# Altium integrated library NSC LDO.IntLib: 1202 symbols (part 2 of 27)
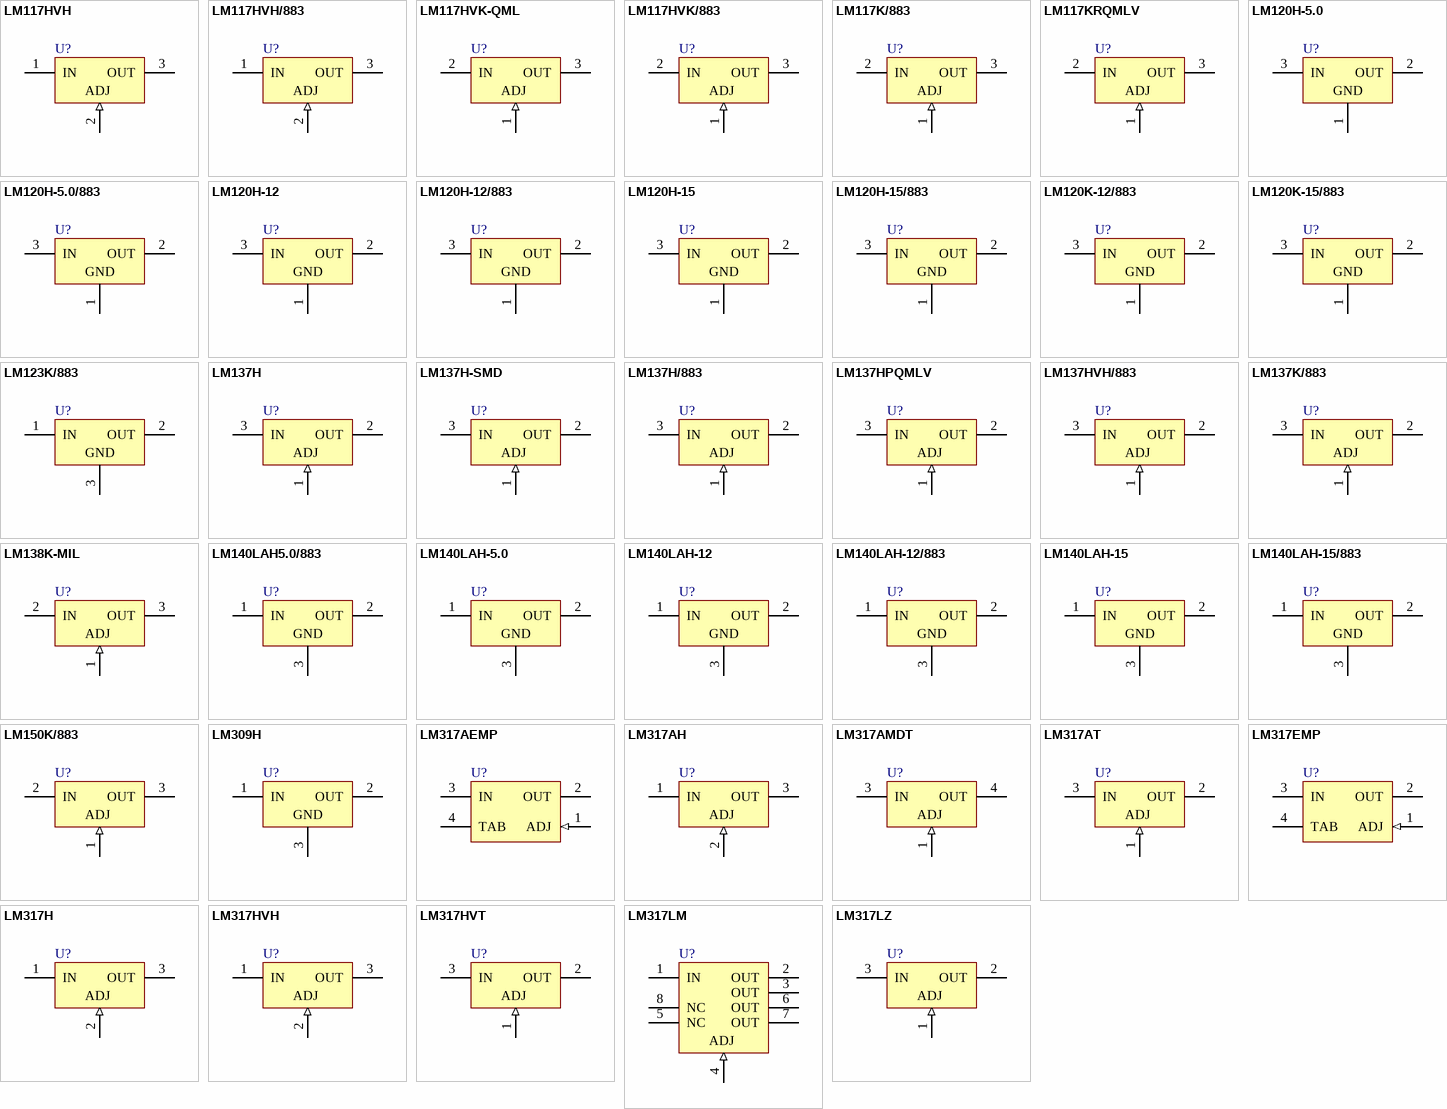
[diagram p31: symbols LM117HVH to LM317LZ]

## LM120K-15/883
designator U?
Series 3-Terminal Negative Regulators; PartNumber: LM120K-15/883; Manufacturer: National Semiconductor; CompType: LDO IC; PackageTopMarking: NS ZSSXXYYA*LM120K-15*/883 Q; Published: 4-Dec-2008; DatasheetVersion: Nov-2007; PackageVersion: revE, Sep-1995; PackageReference: K02C; Publisher: Altium Limited; PackageDescription: Metal Can TO-3, 2 Lead, Low Profile; RoHS: N; PinCount: 2; ComponentLink1Description: LM120 Datasheet; ComponentLink1URL: http://www.national.com/ds/LM/LM120.pdf; ComponentLink2Description: LM120 Web Page; ComponentLink2URL: http://www.national.com/pf/LM/LM120.html; ComponentLink3Description: K02C Package Page; ComponentLink3URL: http://www.national.com/packaging/folders/k02c.html
footprint K02C (Oval Flange Mount with (2) Offset Leads; Pin Spacing 10.92 mm; Lead Dia. 1.09 mm (max))
pins: 1 GND (power), 2 OUT (power), 3 IN (power)

## LM123K/883
designator U?
3-Amp, 5-Volt Positive Regulator; PartNumber: LM123K/883; Manufacturer: National Semiconductor; CompType: LDO IC; PackageTopMarking: NSZSSXXYYA*LM123K/883*Q; Published: 4-Dec-2008; DatasheetVersion: Apr-1998; PackageVersion: revE, Sep-1995; PackageReference: K02C; Publisher: Altium Limited; PackageDescription: Metal Can TO-3, 2 Lead, Low Profile; RoHS: N; PinCount: 2; ComponentLink1Description: LM123 Datasheet; ComponentLink1URL: http://www.national.com/ds/LM/LM123.pdf; ComponentLink2Description: LM123 Web Page; ComponentLink2URL: http://www.national.com/pf/LM/LM123.html; ComponentLink3Description: K02C Package Page; ComponentLink3URL: http://www.national.com/packaging/folders/k02c.html
footprint K02C (Oval Flange Mount with (2) Offset Leads; Pin Spacing 10.92 mm; Lead Dia. 1.09 mm (max))
pins: 1 IN (power), 2 OUT (power), 3 GND (power)

## LM137H
designator U?
3-Terminal Adjustable Negative Regulator; PartNumber: LM137H; Manufacturer: National Semiconductor; CompType: LDO IC; PackageTopMarking: NSZXYTTE# LM137HP+; Published: 4-Dec-2008; DatasheetVersion: Nov-2004; PackageVersion: revD, Feb-1995; PackageReference: H03A; Publisher: Altium Limited; PackageDescription: Metal Can, TO-39, 3 Lead, .200in Dia, P.C.; RoHS: O; PinCount: 3; DigiKeyPartNumber: LM137H-ND; Code_JEDEC: TO-39; ComponentLink1Description: LM137 Datasheet; ComponentLink1URL: http://www.national.com/ds/LM/LM137.pdf; ComponentLink2Description: LM137 Web Page; ComponentLink2URL: http://www.national.com/pf/LM/LM137.html; ComponentLink3Description: H03A Package Page; ComponentLink3URL: http://www.national.com/packaging/folders/h03a.html
footprint H03A (Can; 3 Leads; Pin Circle Dia. 5.08 mm; Lead Dia. 0.48 mm (max))
pins: 1 ADJ (in), 2 OUT (power), 3 IN (power)

## LM137H-SMD
designator U?
3-Terminal Adjustable Negative Regulator; PartNumber: LM137H-SMD; Manufacturer: National Semiconductor; CompType: LDO IC; PackageTopMarking: NS ZSSXXYYA Q*27014 7703403XA; Published: 4-Dec-2008; DatasheetVersion: Nov-2004; PackageVersion: revD, Feb-1995; PackageReference: H03A; Publisher: Altium Limited; PackageDescription: Metal Can, TO-39, 3 Lead, .200in Dia, P.C.; RoHS: N; PinCount: 3; Code_JEDEC: TO-39; ComponentLink1Description: LM137 Datasheet; ComponentLink1URL: http://www.national.com/ds/LM/LM137.pdf; ComponentLink2Description: LM137 Web Page; ComponentLink2URL: http://www.national.com/pf/LM/LM137.html; ComponentLink3Description: H03A Package Page; ComponentLink3URL: http://www.national.com/packaging/folders/h03a.html
footprint H03A (Can; 3 Leads; Pin Circle Dia. 5.08 mm; Lead Dia. 0.48 mm (max))
pins: 1 ADJ (in), 2 OUT (power), 3 IN (power)

## LM137H/883
designator U?
3-Terminal Adjustable Negative Regulator; PartNumber: LM137H/883; Manufacturer: National Semiconductor; CompType: LDO IC; PackageTopMarking: NS ZSSXXYYA*LM137H/883 Q; Published: 4-Dec-2008; DatasheetVersion: Nov-2004; PackageVersion: revD, Feb-1995; PackageReference: H03A; Publisher: Altium Limited; PackageDescription: Metal Can, TO-39, 3 Lead, .200in Dia, P.C.; RoHS: N; PinCount: 3; Code_JEDEC: TO-39; ComponentLink1Description: LM137 Datasheet; ComponentLink1URL: http://www.national.com/ds/LM/LM137.pdf; ComponentLink2Description: LM137 Web Page; ComponentLink2URL: http://www.national.com/pf/LM/LM137.html; ComponentLink3Description: H03A Package Page; ComponentLink3URL: http://www.national.com/packaging/folders/h03a.html
footprint H03A (Can; 3 Leads; Pin Circle Dia. 5.08 mm; Lead Dia. 0.48 mm (max))
pins: 1 ADJ (in), 2 OUT (power), 3 IN (power)

## LM137HPQMLV
designator U?
3-Terminal Adjustable Negative Regulator; PartNumber: LM137HPQMLV; Manufacturer: National Semiconductor; CompType: LDO IC; PackageTopMarking: NSZSSXXYYA*9951701VXA LM137HPQV Q; Published: 4-Dec-2008; DatasheetVersion: Nov-2004; PackageVersion: revD, Feb-1995; PackageReference: H03A; Publisher: Altium Limited; PackageDescription: Metal Can, TO-39, 3 Lead, .200in Dia, P.C.; RoHS: N; PinCount: 3; Code_JEDEC: TO-39; ComponentLink1Description: LM137 Datasheet; ComponentLink1URL: http://www.national.com/ds/LM/LM137.pdf; ComponentLink2Description: LM137 Web Page; ComponentLink2URL: http://www.national.com/pf/LM/LM137.html; ComponentLink3Description: H03A Package Page; ComponentLink3URL: http://www.national.com/packaging/folders/h03a.html
footprint H03A (Can; 3 Leads; Pin Circle Dia. 5.08 mm; Lead Dia. 0.48 mm (max))
pins: 1 ADJ (in), 2 OUT (power), 3 IN (power)

## LM137HVH/883
designator U?
3-Terminal Adjustable Negative Regulator (High Voltage); PartNumber: LM137HVH/883; Manufacturer: National Semiconductor; CompType: LDO IC; PackageTopMarking: NS ZSSXXYYA*LM137HVH/883 Q; Published: 4-Dec-2008; DatasheetVersion: May-1999; PackageVersion: revD, Feb-1995; PackageReference: H03A; Publisher: Altium Limited; PackageDescription: Metal Can, TO-39, 3 Lead, .200in Dia, P.C.; RoHS: N; PinCount: 3; Code_JEDEC: TO-39; ComponentLink1Description: LM137HV Datasheet; ComponentLink1URL: http://www.national.com/ds/LM/LM137HV.pdf; ComponentLink2Description: LM137HV Web Page; ComponentLink2URL: http://www.national.com/pf/LM/LM137HV.html; ComponentLink3Description: H03A Package Page; ComponentLink3URL: http://www.national.com/packaging/folders/h03a.html
footprint H03A (Can; 3 Leads; Pin Circle Dia. 5.08 mm; Lead Dia. 0.48 mm (max))
pins: 1 ADJ (in), 2 OUT (power), 3 IN (power)

## LM137K/883
designator U?
3-Terminal Adjustable Negative Regulator; PartNumber: LM137K/883; Manufacturer: National Semiconductor; CompType: LDO IC; PackageTopMarking: NSZSSXXYYA*LM137K/883*Q; Published: 4-Dec-2008; DatasheetVersion: Nov-2004; PackageVersion: revE, Sep-1995; PackageReference: K02C; Publisher: Altium Limited; PackageDescription: Metal Can TO-3, 2 Lead, Low Profile; RoHS: N; PinCount: 2; ComponentLink1Description: LM137 Datasheet; ComponentLink1URL: http://www.national.com/ds/LM/LM137.pdf; ComponentLink2Description: LM137 Web Page; ComponentLink2URL: http://www.national.com/pf/LM/LM137.html; ComponentLink3Description: K02C Package Page; ComponentLink3URL: http://www.national.com/packaging/folders/k02c.html
footprint K02C (Oval Flange Mount with (2) Offset Leads; Pin Spacing 10.92 mm; Lead Dia. 1.09 mm (max))
pins: 1 ADJ (in), 2 OUT (power), 3 IN (power)

## LM138K-MIL
designator U?
5 Amp Adjustable Regulator; PartNumber: LM138K-MIL; Manufacturer: National Semiconductor; CompType: LDO IC; Published: 4-Dec-2008; DatasheetVersion: May-1998; PackageVersion: revE, Sep-1995; PackageReference: K02C; Publisher: Altium Limited; PackageDescription: Metal Can TO-3, 2 Lead, Low Profile; RoHS: N; PinCount: 2; ComponentLink1Description: LM138 Datasheet; ComponentLink1URL: http://www.national.com/ds/LM/LM138.pdf; ComponentLink2Description: LM138 Web Page; ComponentLink2URL: http://www.national.com/pf/LM/LM138.html; ComponentLink3Description: K02C Package Page; ComponentLink3URL: http://www.national.com/packaging/folders/k02c.html
footprint K02C (Oval Flange Mount with (2) Offset Leads; Pin Spacing 10.92 mm; Lead Dia. 1.09 mm (max))
pins: 1 ADJ (in), 2 IN (power), 3 OUT (power)

## LM140LAH5.0/883
designator U?
Series 3-Terminal Positive Regulators; PartNumber: LM140LAH5.0/883; Manufacturer: National Semiconductor; CompType: LDO IC; PackageTopMarking: NS ZSSXXYYA*LM140LAH5.0/883 Q; Published: 4-Dec-2008; DatasheetVersion: Jul-2005; PackageVersion: revD, Feb-1995; PackageReference: H03A; Publisher: Altium Limited; PackageDescription: Metal Can, TO-39, 3 Lead, .200in Dia, P.C.; RoHS: N; PinCount: 3; Code_JEDEC: TO-39; ComponentLink1Description: LM140L Datasheet; ComponentLink1URL: http://www.national.com/ds/LM/LM140L.pdf; ComponentLink2Description: LM140L Web Page; ComponentLink2URL: http://www.national.com/pf/LM/LM140L.html; ComponentLink3Description: H03A Package Page; ComponentLink3URL: http://www.national.com/packaging/folders/h03a.html
footprint H03A (Can; 3 Leads; Pin Circle Dia. 5.08 mm; Lead Dia. 0.48 mm (max))
pins: 1 IN (power), 2 OUT (power), 3 GND (power)

## LM140LAH-5.0
designator U?
Series 3-Terminal Positive Regulators; PartNumber: LM140LAH-5.0; Manufacturer: National Semiconductor; CompType: LDO IC; PackageTopMarking: NSZXYTTE# LM140LAH-5.0; Published: 4-Dec-2008; DatasheetVersion: Jul-2005; PackageVersion: revD, Feb-1995; PackageReference: H03A; Publisher: Altium Limited; PackageDescription: Metal Can, TO-39, 3 Lead, .200in Dia, P.C.; RoHS: O; PinCount: 3; DigiKeyPartNumber: LM140LAH-5.0-ND; Code_JEDEC: TO-39; ComponentLink1Description: LM140L Datasheet; ComponentLink1URL: http://www.national.com/ds/LM/LM140L.pdf; ComponentLink2Description: LM140L Web Page; ComponentLink2URL: http://www.national.com/pf/LM/LM140L.html; ComponentLink3Description: H03A Package Page; ComponentLink3URL: http://www.national.com/packaging/folders/h03a.html
footprint H03A (Can; 3 Leads; Pin Circle Dia. 5.08 mm; Lead Dia. 0.48 mm (max))
pins: 1 IN (power), 2 OUT (power), 3 GND (power)

## LM140LAH-12
designator U?
Series 3-Terminal Positive Regulators; PartNumber: LM140LAH-12; Manufacturer: National Semiconductor; CompType: LDO IC; PackageTopMarking: NSZXYTTE# LM140LAH-12; Published: 4-Dec-2008; DatasheetVersion: Jul-2005; PackageVersion: revD, Feb-1995; PackageReference: H03A; Publisher: Altium Limited; PackageDescription: Metal Can, TO-39, 3 Lead, .200in Dia, P.C.; RoHS: O; PinCount: 3; DigiKeyPartNumber: LM140LAH-12-ND; Code_JEDEC: TO-39; ComponentLink1Description: LM140L Datasheet; ComponentLink1URL: http://www.national.com/ds/LM/LM140L.pdf; ComponentLink2Description: LM140L Web Page; ComponentLink2URL: http://www.national.com/pf/LM/LM140L.html; ComponentLink3Description: H03A Package Page; ComponentLink3URL: http://www.national.com/packaging/folders/h03a.html
footprint H03A (Can; 3 Leads; Pin Circle Dia. 5.08 mm; Lead Dia. 0.48 mm (max))
pins: 1 IN (power), 2 OUT (power), 3 GND (power)

## LM140LAH-12/883
designator U?
Series 3-Terminal Positive Regulators; PartNumber: LM140LAH-12/883; Manufacturer: National Semiconductor; CompType: LDO IC; PackageTopMarking: NS ZSSXXYYA*LM140LAH-12/883 Q; Published: 4-Dec-2008; DatasheetVersion: Jul-2005; PackageVersion: revD, Feb-1995; PackageReference: H03A; Publisher: Altium Limited; PackageDescription: Metal Can, TO-39, 3 Lead, .200in Dia, P.C.; RoHS: N; PinCount: 3; Code_JEDEC: TO-39; ComponentLink1Description: LM140L Datasheet; ComponentLink1URL: http://www.national.com/ds/LM/LM140L.pdf; ComponentLink2Description: LM140L Web Page; ComponentLink2URL: http://www.national.com/pf/LM/LM140L.html; ComponentLink3Description: H03A Package Page; ComponentLink3URL: http://www.national.com/packaging/folders/h03a.html
footprint H03A (Can; 3 Leads; Pin Circle Dia. 5.08 mm; Lead Dia. 0.48 mm (max))
pins: 1 IN (power), 2 OUT (power), 3 GND (power)

## LM140LAH-15
designator U?
Series 3-Terminal Positive Regulators; PartNumber: LM140LAH-15; Manufacturer: National Semiconductor; CompType: LDO IC; PackageTopMarking: NSZXYTTE# LM140LAH-15; Published: 4-Dec-2008; DatasheetVersion: Jul-2005; PackageVersion: revD, Feb-1995; PackageReference: H03A; Publisher: Altium Limited; PackageDescription: Metal Can, TO-39, 3 Lead, .200in Dia, P.C.; RoHS: O; PinCount: 3; Code_JEDEC: TO-39; ComponentLink1Description: LM140L Datasheet; ComponentLink1URL: http://www.national.com/ds/LM/LM140L.pdf; ComponentLink2Description: LM140L Web Page; ComponentLink2URL: http://www.national.com/pf/LM/LM140L.html; ComponentLink3Description: H03A Package Page; ComponentLink3URL: http://www.national.com/packaging/folders/h03a.html
footprint H03A (Can; 3 Leads; Pin Circle Dia. 5.08 mm; Lead Dia. 0.48 mm (max))
pins: 1 IN (power), 2 OUT (power), 3 GND (power)

## LM140LAH-15/883
designator U?
Series 3-Terminal Positive Regulators; PartNumber: LM140LAH-15/883; Manufacturer: National Semiconductor; CompType: LDO IC; PackageTopMarking: NS ZSSXXYYA*LM140LAH-15/883 Q; Published: 4-Dec-2008; DatasheetVersion: Jul-2005; PackageVersion: revD, Feb-1995; PackageReference: H03A; Publisher: Altium Limited; PackageDescription: Metal Can, TO-39, 3 Lead, .200in Dia, P.C.; RoHS: N; PinCount: 3; Code_JEDEC: TO-39; ComponentLink1Description: LM140L Datasheet; ComponentLink1URL: http://www.national.com/ds/LM/LM140L.pdf; ComponentLink2Description: LM140L Web Page; ComponentLink2URL: http://www.national.com/pf/LM/LM140L.html; ComponentLink3Description: H03A Package Page; ComponentLink3URL: http://www.national.com/packaging/folders/h03a.html
footprint H03A (Can; 3 Leads; Pin Circle Dia. 5.08 mm; Lead Dia. 0.48 mm (max))
pins: 1 IN (power), 2 OUT (power), 3 GND (power)

## LM150K/883
designator U?
3-Amp Adjustable Regulator; PartNumber: LM150K/883; Manufacturer: National Semiconductor; CompType: LDO IC; PackageTopMarking: NS ZSSXXYYA*LM150K/883*Q 5962-*8767501XA; Published: 4-Dec-2008; DatasheetVersion: May-1998; PackageVersion: revE, Sep-1995; PackageReference: K02C; Publisher: Altium Limited; PackageDescription: Metal Can TO-3, 2 Lead, Low Profile; RoHS: N; PinCount: 2; ComponentLink1Description: LM150 Datasheet; ComponentLink1URL: http://www.national.com/ds/LM/LM150.pdf; ComponentLink2Description: LM150 Web Page; ComponentLink2URL: http://www.national.com/pf/LM/LM150.html; ComponentLink3Description: K02C Package Page; ComponentLink3URL: http://www.national.com/packaging/folders/k02c.html
footprint K02C (Oval Flange Mount with (2) Offset Leads; Pin Spacing 10.92 mm; Lead Dia. 1.09 mm (max))
pins: 1 ADJ (in), 2 IN (power), 3 OUT (power)

## LM309H
designator U?
5-Volt Regulator; PartNumber: LM309H; Manufacturer: National Semiconductor; CompType: LDO IC; PackageTopMarking: NSZXYTTE# LM309HP+; Published: 4-Dec-2008; DatasheetVersion: Apr-1998; PackageVersion: revD, Feb-1995; PackageReference: H03A; Publisher: Altium Limited; PackageDescription: Metal Can, TO-39, 3 Lead, .200in Dia, P.C.; RoHS: O; PinCount: 3; DigiKeyPartNumber: LM309H-ND; Code_JEDEC: TO-39; ComponentLink1Description: LM309 Datasheet; ComponentLink1URL: http://www.national.com/ds/LM/LM309.pdf; ComponentLink2Description: LM309 Web Page; ComponentLink2URL: http://www.national.com/pf/LM/LM309.html; ComponentLink3Description: H03A Package Page; ComponentLink3URL: http://www.national.com/packaging/folders/h03a.html
footprint H03A (Can; 3 Leads; Pin Circle Dia. 5.08 mm; Lead Dia. 0.48 mm (max))
pins: 1 IN (power), 2 OUT (power), 3 GND (power)

## LM317AEMP
designator U?
3-Terminal Adjustable Regulator; PartNumber: LM317AEMP; Manufacturer: National Semiconductor; CompType: LDO IC; PackageTopMarking: XYTT*N07A; Published: 4-Dec-2008; DatasheetVersion: Apr-2007; PackageVersion: revB, Apr-2003; PackageReference: MP04A; Publisher: Altium Limited; PackageDescription: Molded SOT-223, 6.50 x 3.56 x 1.6mm Body, 4 Lead, 2.3mm Pitch; RoHS: O; PinCount: 4; DigiKeyPartNumber: LM317AEMPCT-ND; Code_JEDEC: TO-261-AA; Code_IPC: SOT223-4; ComponentLink1Description: LM317 Datasheet; ComponentLink1URL: http://www.national.com/ds/LM/LM317.pdf; ComponentLink2Description: LM317 Web Page; ComponentLink2URL: http://www.national.com/pf/LM/LM317.html; ComponentLink3Description: MP04A Package Page; ComponentLink3URL: http://www.national.com/packaging/folders/mp04a.html
footprint MP04A_N (SOT223, 4-Leads, Body 6.5x3.5mm, Pitch 2.3mm, Lead Span 7mm, IPC Medium Density)
footprint MP04A_L (SOT223, 4-Leads, Body 6.5x3.5mm, Pitch 2.3mm, Lead Span 7mm, IPC High Density)
footprint MP04A_M (SOT223, 4-Leads, Body 6.5x3.5mm, Pitch 2.3mm, Lead Span 7mm, IPC Low Density)
pins: 1 ADJ (in), 2 OUT (power), 3 IN (power), 4 TAB (power)

## LM317AH
designator U?
3-Terminal Adjustable Regulator; PartNumber: LM317AH; Manufacturer: National Semiconductor; CompType: LDO IC; PackageTopMarking: NSZXYTTE# LM317AHP+; Published: 4-Dec-2008; DatasheetVersion: Apr-2007; PackageVersion: revD, Feb-1995; PackageReference: H03A; Publisher: Altium Limited; PackageDescription: Metal Can, TO-39, 3 Lead, .200in Dia, P.C.; RoHS: O; PinCount: 3; DigiKeyPartNumber: LM317AH-ND; Code_JEDEC: TO-39; ComponentLink1Description: LM317 Datasheet; ComponentLink1URL: http://www.national.com/ds/LM/LM317.pdf; ComponentLink2Description: LM317 Web Page; ComponentLink2URL: http://www.national.com/pf/LM/LM317.html; ComponentLink3Description: H03A Package Page; ComponentLink3URL: http://www.national.com/packaging/folders/h03a.html
footprint H03A (Can; 3 Leads; Pin Circle Dia. 5.08 mm; Lead Dia. 0.48 mm (max))
pins: 1 IN (power), 2 ADJ (in), 3 OUT (power)

## LM317AMDT
designator U?
3-Terminal Adjustable Regulator; PartNumber: LM317AMDT; Manufacturer: National Semiconductor; CompType: LDO IC; PackageTopMarking: NSUZXYTT*LM317*AMDT; Published: 4-Dec-2008; DatasheetVersion: Apr-2007; PackageVersion: revC, Apr-2003; PackageReference: TD03B; Publisher: Altium Limited; PackageDescription: TO252, Molded, Jedec, 6.8 x 6.10 x 2.30mm Body, 3 Lead, 2.28mm Pitch, Surface Mount; RoHS: O; PinCount: 3; DigiKeyPartNumber: LM317AMDT-ND; Code_JEDEC: TO-252-AA; ComponentLink1Description: LM317 Datasheet; ComponentLink1URL: http://www.national.com/ds/LM/LM317.pdf; ComponentLink2Description: LM317 Web Page; ComponentLink2URL: http://www.national.com/pf/LM/LM317.html; ComponentLink3Description: TD03B Package Page; ComponentLink3URL: http://www.national.com/packaging/folders/td03b.html
footprint TD03B_N (D-PAK, 4-Leads, Body 6.1x6.6mm, Pitch 2.29mm, Lead Span 9.7mm, IPC Medium Density)
footprint TD03B_L (D-PAK, 4-Leads, Body 6.1x6.6mm, Pitch 2.29mm, Lead Span 9.7mm, IPC High Density)
footprint TD03B_M (D-PAK, 4-Leads, Body 6.1x6.6mm, Pitch 2.29mm, Lead Span 9.7mm, IPC Low Density)
pins: 1 ADJ (in), 3 IN (power), 4 OUT (power)

## LM317AT
designator U?
3-Terminal Adjustable Regulator; PartNumber: LM317AT; Manufacturer: National Semiconductor; CompType: LDO IC; PackageTopMarking: NSUZXYTTE#*LM317AT P+; Published: 4-Dec-2008; DatasheetVersion: Apr-2007; PackageVersion: revL, Jan-1992; PackageReference: T03B; Publisher: Altium Limited; PackageDescription: TO-220, Molded, 3 Lead, Straight; RoHS: O; PinCount: 3; DigiKeyPartNumber: LM317AT-ND; ComponentLink1Description: LM317 Datasheet; ComponentLink1URL: http://www.national.com/ds/LM/LM317.pdf; ComponentLink2Description: LM317 Web Page; ComponentLink2URL: http://www.national.com/pf/LM/LM317.html; ComponentLink3Description: T03B Package Page; ComponentLink3URL: http://www.national.com/packaging/folders/t03b.html
footprint T03B (TO, Thru-Hole, Vertical, Heatsink Mounted; 3 In-Line Leads; Pitch 2.54 mm)
pins: 1 ADJ (in), 2 OUT (power), 3 IN (power)

## LM317EMP
designator U?
3-Terminal Adjustable Regulator; PartNumber: LM317EMP; Manufacturer: National Semiconductor; CompType: LDO IC; PackageTopMarking: XYTT*N01A; Published: 4-Dec-2008; DatasheetVersion: Apr-2007; PackageVersion: revB, Apr-2003; PackageReference: MP04A; Publisher: Altium Limited; PackageDescription: Molded SOT-223, 6.50 x 3.56 x 1.6mm Body, 4 Lead, 2.3mm Pitch; RoHS: O; PinCount: 4; DigiKeyPartNumber: LM317EMPCT-ND; Code_JEDEC: TO-261-AA; Code_IPC: SOT223-4; ComponentLink1Description: LM317 Datasheet; ComponentLink1URL: http://www.national.com/ds/LM/LM317.pdf; ComponentLink2Description: LM317 Web Page; ComponentLink2URL: http://www.national.com/pf/LM/LM317.html; ComponentLink3Description: MP04A Package Page; ComponentLink3URL: http://www.national.com/packaging/folders/mp04a.html
footprint MP04A_N (SOT223, 4-Leads, Body 6.5x3.5mm, Pitch 2.3mm, Lead Span 7mm, IPC Medium Density)
footprint MP04A_L (SOT223, 4-Leads, Body 6.5x3.5mm, Pitch 2.3mm, Lead Span 7mm, IPC High Density)
footprint MP04A_M (SOT223, 4-Leads, Body 6.5x3.5mm, Pitch 2.3mm, Lead Span 7mm, IPC Low Density)
pins: 1 ADJ (in), 2 OUT (power), 3 IN (power), 4 TAB (power)

## LM317H
designator U?
3-Terminal Adjustable Regulator; PartNumber: LM317H; Manufacturer: National Semiconductor; CompType: LDO IC; PackageTopMarking: NSZXYTTE# LM317HP+; Published: 4-Dec-2008; DatasheetVersion: Apr-2007; PackageVersion: revD, Feb-1995; PackageReference: H03A; Publisher: Altium Limited; PackageDescription: Metal Can, TO-39, 3 Lead, .200in Dia, P.C.; RoHS: O; PinCount: 3; DigiKeyPartNumber: LM317HVH-ND; Code_JEDEC: TO-39; ComponentLink1Description: LM317 Datasheet; ComponentLink1URL: http://www.national.com/ds/LM/LM317.pdf; ComponentLink2Description: LM317 Web Page; ComponentLink2URL: http://www.national.com/pf/LM/LM317.html; ComponentLink3Description: H03A Package Page; ComponentLink3URL: http://www.national.com/packaging/folders/h03a.html
footprint H03A (Can; 3 Leads; Pin Circle Dia. 5.08 mm; Lead Dia. 0.48 mm (max))
pins: 1 IN (power), 2 ADJ (in), 3 OUT (power)

## LM317HVH
designator U?
3-Terminal Adjustable Regulator; PartNumber: LM317HVH; Manufacturer: National Semiconductor; CompType: LDO IC; PackageTopMarking: NSZXYTTE# LM317HVHP+; Published: 4-Dec-2008; DatasheetVersion: Apr-2000; PackageVersion: revD, Feb-1995; PackageReference: H03A; Publisher: Altium Limited; PackageDescription: Metal Can, TO-39, 3 Lead, .200in Dia, P.C.; RoHS: O; PinCount: 3; DigiKeyPartNumber: LM317HVH-ND; Code_JEDEC: TO-39; ComponentLink1Description: LM317HV Datasheet; ComponentLink1URL: http://www.national.com/ds/LM/LM317HV.pdf; ComponentLink2Description: LM317HV Web Page; ComponentLink2URL: http://www.national.com/pf/LM/LM317HV.html; ComponentLink3Description: H03A Package Page; ComponentLink3URL: http://www.national.com/packaging/folders/h03a.html
footprint H03A (Can; 3 Leads; Pin Circle Dia. 5.08 mm; Lead Dia. 0.48 mm (max))
pins: 1 IN (power), 2 ADJ (in), 3 OUT (power)

## LM317HVT
designator U?
3-Terminal Adjustable Regulator; PartNumber: LM317HVT; Manufacturer: National Semiconductor; CompType: LDO IC; PackageTopMarking: NSUZXYTTE#*LM317*HVT P+; Published: 4-Dec-2008; DatasheetVersion: Apr-2000; PackageVersion: revL, Jan-1992; PackageReference: T03B; Publisher: Altium Limited; PackageDescription: TO-220, Molded, 3 Lead, Straight; RoHS: O; PinCount: 3; DigiKeyPartNumber: LM317HVT-ND; ComponentLink1Description: LM317HV Datasheet; ComponentLink1URL: http://www.national.com/ds/LM/LM317HV.pdf; ComponentLink2Description: LM317HV Web Page; ComponentLink2URL: http://www.national.com/pf/LM/LM317HV.html; ComponentLink3Description: T03B Package Page; ComponentLink3URL: http://www.national.com/packaging/folders/t03b.html
footprint T03B (TO, Thru-Hole, Vertical, Heatsink Mounted; 3 In-Line Leads; Pitch 2.54 mm)
pins: 1 ADJ (in), 2 OUT (power), 3 IN (power)

## LM317LM
designator U?
3-Terminal Adjustable Regulator; PartNumber: LM317LM; Manufacturer: National Semiconductor; CompType: LDO IC; PackageTopMarking: NSZXTT*LM317*LM; Published: 4-Dec-2008; DatasheetVersion: Apr-2008; PackageVersion: revL, Sep-2006; PackageReference: M08A; Publisher: Altium Limited; PackageDescription: SOIC Narrow, 4.9 x 3.9 x 1.45mm, 8 Lead, 1.27mm Pitch; RoHS: O; PinCount: 8; DigiKeyPartNumber: LM317LM-ND; Code_JEDEC: MS-012-AA; Code_IPC: SOIC127P600-8; ComponentLink1Description: LM317L Datasheet; ComponentLink1URL: http://www.national.com/ds/LM/LM317L.pdf; ComponentLink2Description: LM317L Web Page; ComponentLink2URL: http://www.national.com/pf/LM/LM317L.html; ComponentLink3Description: M08A Package Page; ComponentLink3URL: http://www.national.com/packaging/folders/m08a.html
footprint M08A_N (SOIC, 8-Leads, Body 4.9x3.9mm, Pitch 1.27mm, IPC Medium Density)
footprint M08A_L (SOIC, 8-Leads, Body 4.9x3.9mm, Pitch 1.27mm, IPC High Density)
footprint M08A_M (SOIC, 8-Leads, Body 4.9x3.9mm, Pitch 1.27mm, IPC Low Density)
pins: 1 IN (power), 2 OUT (power), 3 OUT (power), 4 ADJ (in), 5 NC, 6 OUT (power), 7 OUT (power), 8 NC

## LM317LZ
designator U?
3-Terminal Adjustable Regulator; PartNumber: LM317LZ; Manufacturer: National Semiconductor; CompType: LDO IC; PackageTopMarking: NSXYTT*LM317*LZ; Published: 4-Dec-2008; DatasheetVersion: Apr-2008; PackageVersion: revG, Sep-2000; PackageReference: Z03A; Publisher: Altium Limited; PackageDescription: TO-92, Molded, 3 Lead; RoHS: O; PinCount: 3; DigiKeyPartNumber: LM317LZNS-ND; Code_JEDEC: TO-226-AA; ComponentLink1Description: LM317L Datasheet; ComponentLink1URL: http://www.national.com/ds/LM/LM317L.pdf; ComponentLink2Description: LM317L Web Page; ComponentLink2URL: http://www.national.com/pf/LM/LM317L.html; ComponentLink3Description: Z03A Package Page; ComponentLink3URL: http://www.national.com/packaging/folders/z03a.html
footprint Z03A (TO, Flat Index; 3 In-Line, Axial Leads; Body Dia. 5mm; Leads 0.55 x 0.50 mm (max))
pins: 1 ADJ (in), 2 OUT (power), 3 IN (power)

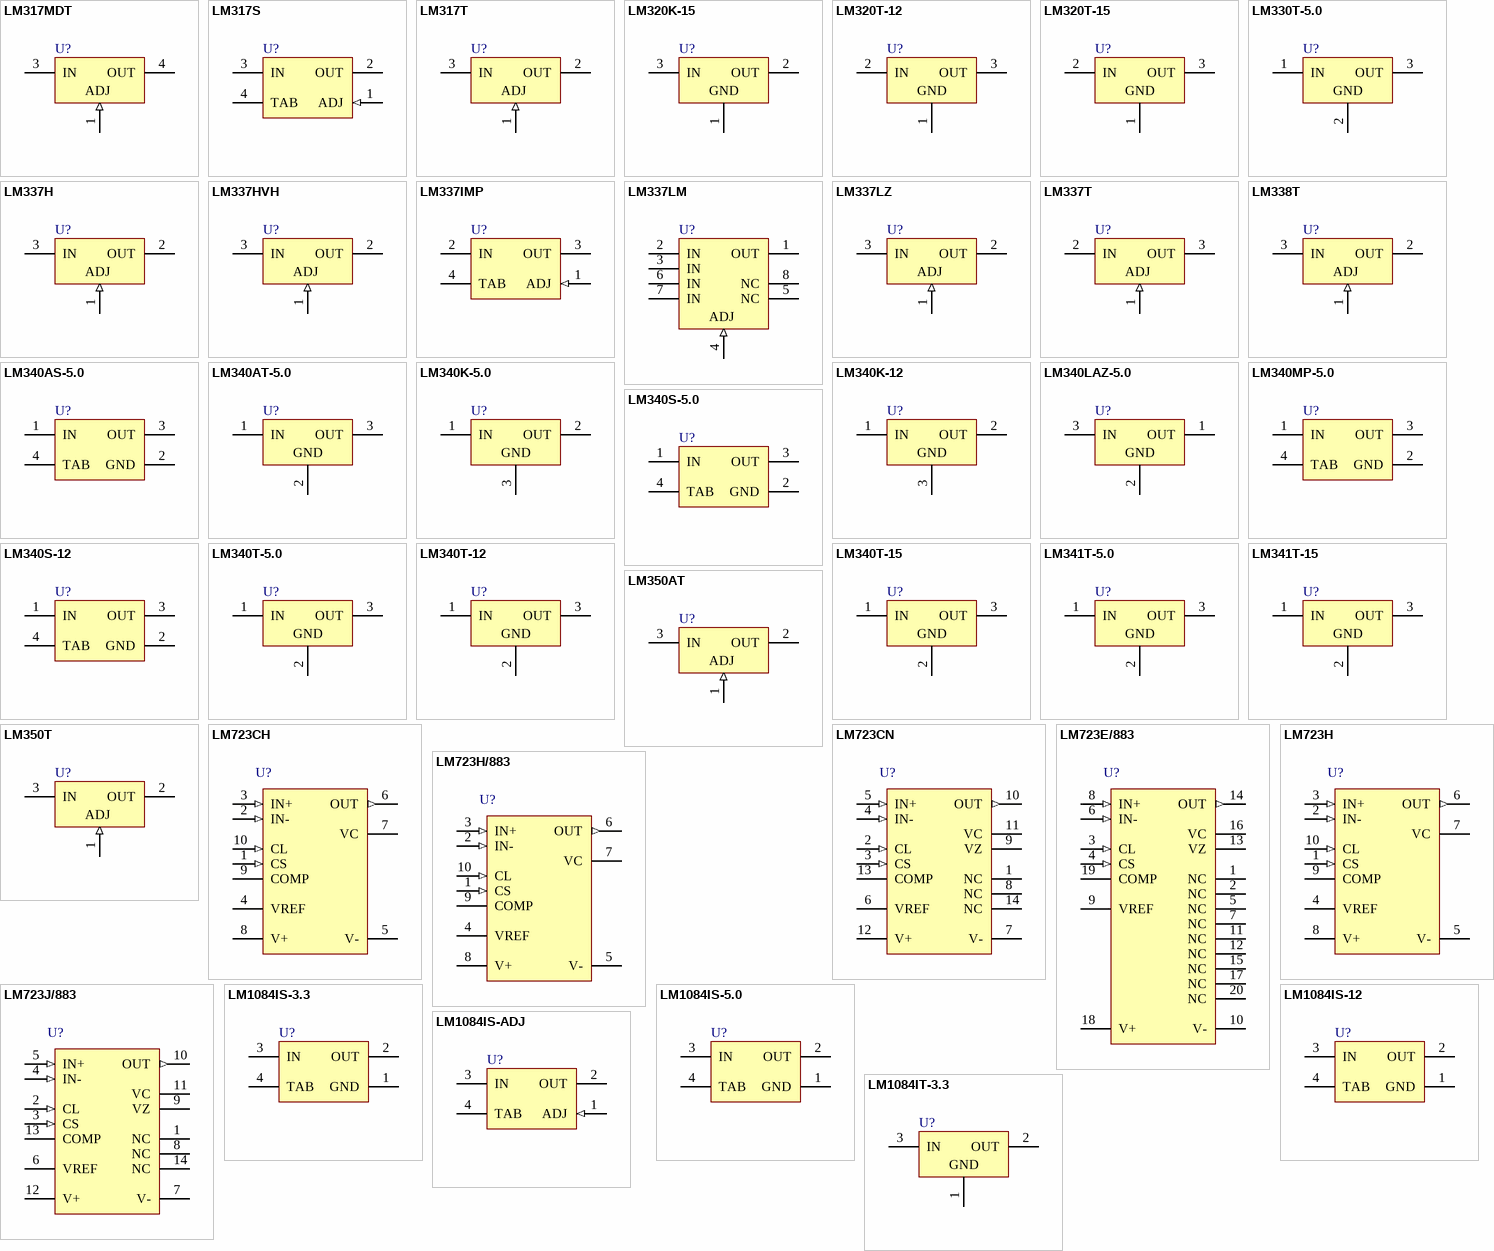
[diagram p2: symbols LM317MDT to LM1084IT-3.3]

## LM317MDT
designator U?
3-Terminal Adjustable Regulator; PartNumber: LM317MDT; Manufacturer: National Semiconductor; CompType: LDO IC; PackageTopMarking: NSUZXYTT*LM317*MDT; Published: 4-Dec-2008; DatasheetVersion: Apr-2007; PackageVersion: revC, Apr-2003; PackageReference: TD03B; Publisher: Altium Limited; PackageDescription: TO252, Molded, Jedec, 6.8 x 6.10 x 2.30mm Body, 3 Lead, 2.28mm Pitch, Surface Mount; RoHS: O; PinCount: 3; DigiKeyPartNumber: LM317MDTNS-ND; Code_JEDEC: TO-252-AA; ComponentLink1Description: LM317 Datasheet; ComponentLink1URL: http://www.national.com/ds/LM/LM317.pdf; ComponentLink2Description: LM317 Web Page; ComponentLink2URL: http://www.national.com/pf/LM/LM317.html; ComponentLink3Description: TD03B Package Page; ComponentLink3URL: http://www.national.com/packaging/folders/td03b.html
footprint TD03B_N (D-PAK, 4-Leads, Body 6.1x6.6mm, Pitch 2.29mm, Lead Span 9.7mm, IPC Medium Density)
footprint TD03B_L (D-PAK, 4-Leads, Body 6.1x6.6mm, Pitch 2.29mm, Lead Span 9.7mm, IPC High Density)
footprint TD03B_M (D-PAK, 4-Leads, Body 6.1x6.6mm, Pitch 2.29mm, Lead Span 9.7mm, IPC Low Density)
pins: 1 ADJ (in), 3 IN (power), 4 OUT (power)

## LM317S
designator U?
3-Terminal Adjustable Regulator; PartNumber: LM317S; Manufacturer: National Semiconductor; CompType: LDO IC; PackageTopMarking: NSUZXYTTE#*LM317S*P+; Published: 4-Dec-2008; DatasheetVersion: Apr-2007; PackageVersion: revF, Apr-2005; PackageReference: TS3B; Publisher: Altium Limited; PackageDescription: TO-263, Molded, .400 x .390 x .180in, 3 Lead, .1in Pitch, Surface Mount; RoHS: O; PinCount: 3; DigiKeyPartNumber: LM317S-ND; Code_JEDEC: MO-169-AA; ComponentLink1Description: LM317 Datasheet; ComponentLink1URL: http://www.national.com/ds/LM/LM317.pdf; ComponentLink2Description: LM317 Web Page; ComponentLink2URL: http://www.national.com/pf/LM/LM317.html; ComponentLink3Description: TS3B Package Page; ComponentLink3URL: http://www.national.com/packaging/folders/ts3b.html
footprint TS3B_N (D2-PAK, 4-Leads, Body 8.6x10.2mm, Pitch 2.54mm, Lead Span 14.2mm, IPC Medium Density)
footprint TS3B_L (D2-PAK, 4-Leads, Body 8.6x10.2mm, Pitch 2.54mm, Lead Span 14.2mm, IPC High Density)
footprint TS3B_M (D2-PAK, 4-Leads, Body 8.6x10.2mm, Pitch 2.54mm, Lead Span 14.2mm, IPC Low Density)
pins: 1 ADJ (in), 2 OUT (power), 3 IN (power), 4 TAB (power)

## LM317T
designator U?
3-Terminal Adjustable Regulator; PartNumber: LM317T; Manufacturer: National Semiconductor; CompType: LDO IC; PackageTopMarking: NSUZXYTTE#*LM317T P+; Published: 4-Dec-2008; DatasheetVersion: Apr-2007; PackageVersion: revL, Jan-1992; PackageReference: T03B; Publisher: Altium Limited; PackageDescription: TO-220, Molded, 3 Lead, Straight; RoHS: O; PinCount: 3; DigiKeyPartNumber: LM317TNS-ND; ComponentLink1Description: LM317 Datasheet; ComponentLink1URL: http://www.national.com/ds/LM/LM317.pdf; ComponentLink2Description: LM317 Web Page; ComponentLink2URL: http://www.national.com/pf/LM/LM317.html; ComponentLink3Description: T03B Package Page; ComponentLink3URL: http://www.national.com/packaging/folders/t03b.html
footprint T03B (TO, Thru-Hole, Vertical, Heatsink Mounted; 3 In-Line Leads; Pitch 2.54 mm)
pins: 1 ADJ (in), 2 OUT (power), 3 IN (power)

## LM320K-15
designator U?
Series 3-Terminal Negative Regulators; PartNumber: LM320K-15; Manufacturer: National Semiconductor; CompType: LDO IC; PackageTopMarking: NS*ZXYTTE#*LM320K*-15P+; Published: 4-Dec-2008; DatasheetVersion: Nov-2007; PackageVersion: revG, Oct-1991; PackageReference: K02A; Publisher: Altium Limited; PackageDescription: Metal Can (KA) TO-3, 2 Lead; RoHS: O; PinCount: 2; DigiKeyPartNumber: LM320K-15-ND; ComponentLink1Description: LM320 Datasheet; ComponentLink1URL: http://www.national.com/ds/LM/LM320.pdf; ComponentLink2Description: LM320 Web Page; ComponentLink2URL: http://www.national.com/pf/LM/LM320.html; ComponentLink3Description: K02A Package Page; ComponentLink3URL: http://www.national.com/packaging/folders/k02a.html
footprint K02A (Oval Flange Mount with (2) Offset Leads; Pin Spacing 10.93 mm; Lead Dia. 1.09 mm (max))
pins: 1 GND (power), 2 OUT (power), 3 IN (power)

## LM320T-12
designator U?
Series 3-Terminal Negative Regulators; PartNumber: LM320T-12; Manufacturer: National Semiconductor; CompType: LDO IC; PackageTopMarking: NSUZXYTTE#*LM320T*-12 P+; Published: 4-Dec-2008; DatasheetVersion: Nov-2007; PackageVersion: revL, Jan-1992; PackageReference: T03B; Publisher: Altium Limited; PackageDescription: TO-220, Molded, 3 Lead, Straight; RoHS: O; PinCount: 3; DigiKeyPartNumber: LM320T-12-ND; ComponentLink1Description: LM320 Datasheet; ComponentLink1URL: http://www.national.com/ds/LM/LM320.pdf; ComponentLink2Description: LM320 Web Page; ComponentLink2URL: http://www.national.com/pf/LM/LM320.html; ComponentLink3Description: T03B Package Page; ComponentLink3URL: http://www.national.com/packaging/folders/t03b.html
footprint T03B (TO, Thru-Hole, Vertical, Heatsink Mounted; 3 In-Line Leads; Pitch 2.54 mm)
pins: 1 GND (power), 2 IN (power), 3 OUT (power)

## LM320T-15
designator U?
Series 3-Terminal Negative Regulators; PartNumber: LM320T-15; Manufacturer: National Semiconductor; CompType: LDO IC; PackageTopMarking: NSUZXYTTE#*LM320T*-15 P+; Published: 4-Dec-2008; DatasheetVersion: Nov-2007; PackageVersion: revL, Jan-1992; PackageReference: T03B; Publisher: Altium Limited; PackageDescription: TO-220, Molded, 3 Lead, Straight; RoHS: O; PinCount: 3; DigiKeyPartNumber: LM320T-15-ND; ComponentLink1Description: LM320 Datasheet; ComponentLink1URL: http://www.national.com/ds/LM/LM320.pdf; ComponentLink2Description: LM320 Web Page; ComponentLink2URL: http://www.national.com/pf/LM/LM320.html; ComponentLink3Description: T03B Package Page; ComponentLink3URL: http://www.national.com/packaging/folders/t03b.html
footprint T03B (TO, Thru-Hole, Vertical, Heatsink Mounted; 3 In-Line Leads; Pitch 2.54 mm)
pins: 1 GND (power), 2 IN (power), 3 OUT (power)

## LM330T-5.0
designator U?
3-Terminal Positive Regulator; PartNumber: LM330T-5.0; Manufacturer: National Semiconductor; CompType: LDO IC; PackageTopMarking: NSUZXYTTE#*LM330T*-5.0; Published: 4-Dec-2008; DatasheetVersion: May-1998; PackageVersion: revL, Jan-1992; PackageReference: T03B; Publisher: Altium Limited; PackageDescription: TO-220, Molded, 3 Lead, Straight; RoHS: O; PinCount: 3; DigiKeyPartNumber: LM330T-5.0-ND; ComponentLink1Description: LM330 Datasheet; ComponentLink1URL: http://www.national.com/ds/LM/LM330.pdf; ComponentLink2Description: LM330 Web Page; ComponentLink2URL: http://www.national.com/pf/LM/LM330.html; ComponentLink3Description: T03B Package Page; ComponentLink3URL: http://www.national.com/packaging/folders/t03b.html
footprint T03B (TO, Thru-Hole, Vertical, Heatsink Mounted; 3 In-Line Leads; Pitch 2.54 mm)
pins: 1 IN (power), 2 GND (power), 3 OUT (power)

## LM337H
designator U?
3-Terminal Adjustable Negative Regulator; PartNumber: LM337H; Manufacturer: National Semiconductor; CompType: LDO IC; PackageTopMarking: NSZXYTTE# LM337H; Published: 4-Dec-2008; DatasheetVersion: Nov-2004; PackageVersion: revD, Feb-1995; PackageReference: H03A; Publisher: Altium Limited; PackageDescription: Metal Can, TO-39, 3 Lead, .200in Dia, P.C.; RoHS: O; PinCount: 3; DigiKeyPartNumber: LM337H-ND; Code_JEDEC: TO-39; ComponentLink1Description: LM337 Datasheet; ComponentLink1URL: http://www.national.com/ds/LM/LM337.pdf; ComponentLink2Description: LM337 Web Page; ComponentLink2URL: http://www.national.com/pf/LM/LM337.html; ComponentLink3Description: H03A Package Page; ComponentLink3URL: http://www.national.com/packaging/folders/h03a.html
footprint H03A (Can; 3 Leads; Pin Circle Dia. 5.08 mm; Lead Dia. 0.48 mm (max))
pins: 1 ADJ (in), 2 OUT (power), 3 IN (power)

## LM337HVH
designator U?
3-Terminal Adjustable Negative Regulator (High Voltage); PartNumber: LM337HVH; Manufacturer: National Semiconductor; CompType: LDO IC; PackageTopMarking: NSZXYTTE# LM337HVH; Published: 4-Dec-2008; DatasheetVersion: May-1999; PackageVersion: revD, Feb-1995; PackageReference: H03A; Publisher: Altium Limited; PackageDescription: Metal Can, TO-39, 3 Lead, .200in Dia, P.C.; RoHS: O; PinCount: 3; DigiKeyPartNumber: LM337HVH-ND; Code_JEDEC: TO-39; ComponentLink1Description: LM337HV Datasheet; ComponentLink1URL: http://www.national.com/ds/LM/LM337HV.pdf; ComponentLink2Description: LM337HV Web Page; ComponentLink2URL: http://www.national.com/pf/LM/LM337HV.html; ComponentLink3Description: H03A Package Page; ComponentLink3URL: http://www.national.com/packaging/folders/h03a.html
footprint H03A (Can; 3 Leads; Pin Circle Dia. 5.08 mm; Lead Dia. 0.48 mm (max))
pins: 1 ADJ (in), 2 OUT (power), 3 IN (power)

## LM337IMP
designator U?
3-Terminal Adjustable Negative Regulator; PartNumber: LM337IMP; Manufacturer: National Semiconductor; CompType: LDO IC; PackageTopMarking: XYTT*N02A; Published: 4-Dec-2008; DatasheetVersion: Nov-2004; PackageVersion: revB, Apr-2003; PackageReference: MP04A; Publisher: Altium Limited; PackageDescription: Molded SOT-223, 6.50 x 3.56 x 1.6mm Body, 4 Lead, 2.3mm Pitch; RoHS: O; PinCount: 4; DigiKeyPartNumber: LM337IMPCT-ND; Code_JEDEC: TO-261-AA; Code_IPC: SOT223-4; ComponentLink1Description: LM337 Datasheet; ComponentLink1URL: http://www.national.com/ds/LM/LM337.pdf; ComponentLink2Description: LM337 Web Page; ComponentLink2URL: http://www.national.com/pf/LM/LM337.html; ComponentLink3Description: MP04A Package Page; ComponentLink3URL: http://www.national.com/packaging/folders/mp04a.html
footprint MP04A_N (SOT223, 4-Leads, Body 6.5x3.5mm, Pitch 2.3mm, Lead Span 7mm, IPC Medium Density)
footprint MP04A_L (SOT223, 4-Leads, Body 6.5x3.5mm, Pitch 2.3mm, Lead Span 7mm, IPC High Density)
footprint MP04A_M (SOT223, 4-Leads, Body 6.5x3.5mm, Pitch 2.3mm, Lead Span 7mm, IPC Low Density)
pins: 1 ADJ (in), 2 IN (power), 3 OUT (power), 4 TAB (power)

## LM337LM
designator U?
3-Terminal Adjustable Regulator; PartNumber: LM337LM; Manufacturer: National Semiconductor; CompType: LDO IC; PackageTopMarking: NSZXTT*LM337*LM; Published: 4-Dec-2008; DatasheetVersion: Jun-2005; PackageVersion: revL, Sep-2006; PackageReference: M08A; Publisher: Altium Limited; PackageDescription: SOIC Narrow, 4.9 x 3.9 x 1.45mm, 8 Lead, 1.27mm Pitch; RoHS: O; PinCount: 8; DigiKeyPartNumber: LM337LM-ND; Code_JEDEC: MS-012-AA; Code_IPC: SOIC127P600-8; ComponentLink1Description: LM337L Datasheet; ComponentLink1URL: http://www.national.com/ds/LM/LM337L.pdf; ComponentLink2Description: LM337L Web Page; ComponentLink2URL: http://www.national.com/pf/LM/LM337L.html; ComponentLink3Description: M08A Package Page; ComponentLink3URL: http://www.national.com/packaging/folders/m08a.html
footprint M08A_N (SOIC, 8-Leads, Body 4.9x3.9mm, Pitch 1.27mm, IPC Medium Density)
footprint M08A_L (SOIC, 8-Leads, Body 4.9x3.9mm, Pitch 1.27mm, IPC High Density)
footprint M08A_M (SOIC, 8-Leads, Body 4.9x3.9mm, Pitch 1.27mm, IPC Low Density)
pins: 1 OUT (power), 2 IN (power), 3 IN (power), 4 ADJ (in), 5 NC, 6 IN (power), 7 IN (power), 8 NC

## LM337LZ
designator U?
3-Terminal Adjustable Regulator; PartNumber: LM337LZ; Manufacturer: National Semiconductor; CompType: LDO IC; PackageTopMarking: NSXYTT*LM337*LZ; Published: 4-Dec-2008; DatasheetVersion: Jun-2005; PackageVersion: revG, Sep-2000; PackageReference: Z03A; Publisher: Altium Limited; PackageDescription: TO-92, Molded, 3 Lead; RoHS: O; PinCount: 3; DigiKeyPartNumber: LM337LZ-ND; Code_JEDEC: TO-226-AA; ComponentLink1Description: LM337L Datasheet; ComponentLink1URL: http://www.national.com/ds/LM/LM337L.pdf; ComponentLink2Description: LM337L Web Page; ComponentLink2URL: http://www.national.com/pf/LM/LM337L.html; ComponentLink3Description: Z03A Package Page; ComponentLink3URL: http://www.national.com/packaging/folders/z03a.html
footprint Z03A (TO, Flat Index; 3 In-Line, Axial Leads; Body Dia. 5mm; Leads 0.55 x 0.50 mm (max))
pins: 1 ADJ (in), 2 OUT (power), 3 IN (power)

## LM337T
designator U?
3-Terminal Adjustable Negative Regulator; PartNumber: LM337T; Manufacturer: National Semiconductor; CompType: LDO IC; PackageTopMarking: NSUZXYTTE#*LM337T P+; Published: 4-Dec-2008; DatasheetVersion: Nov-2004; PackageVersion: revL, Jan-1992; PackageReference: T03B; Publisher: Altium Limited; PackageDescription: TO-220, Molded, 3 Lead, Straight; RoHS: O; PinCount: 3; DigiKeyPartNumber: LM337TNS-ND; ComponentLink1Description: LM337 Datasheet; ComponentLink1URL: http://www.national.com/ds/LM/LM337.pdf; ComponentLink2Description: LM337 Web Page; ComponentLink2URL: http://www.national.com/pf/LM/LM337.html; ComponentLink3Description: T03B Package Page; ComponentLink3URL: http://www.national.com/packaging/folders/t03b.html
footprint T03B (TO, Thru-Hole, Vertical, Heatsink Mounted; 3 In-Line Leads; Pitch 2.54 mm)
pins: 1 ADJ (in), 2 IN (power), 3 OUT (power)

## LM338T
designator U?
5 Amp Adjustable Regulator; PartNumber: LM338T; Manufacturer: National Semiconductor; CompType: LDO IC; PackageTopMarking: NSUZXYTTE#*LM338T P+; Published: 4-Dec-2008; DatasheetVersion: May-1998; PackageVersion: revL, Jan-1992; PackageReference: T03B; Publisher: Altium Limited; PackageDescription: TO-220, Molded, 3 Lead, Straight; RoHS: O; PinCount: 3; DigiKeyPartNumber: LM338T-ND; ComponentLink1Description: LM338 Datasheet; ComponentLink1URL: http://www.national.com/ds/LM/LM338.pdf; ComponentLink2Description: LM338 Web Page; ComponentLink2URL: http://www.national.com/pf/LM/LM338.html; ComponentLink3Description: T03B Package Page; ComponentLink3URL: http://www.national.com/packaging/folders/t03b.html
footprint T03B (TO, Thru-Hole, Vertical, Heatsink Mounted; 3 In-Line Leads; Pitch 2.54 mm)
pins: 1 ADJ (in), 2 OUT (power), 3 IN (power)

## LM340AS-5.0
designator U?
Series 3-Terminal Positive Regulators; PartNumber: LM340AS-5.0; Manufacturer: National Semiconductor; CompType: LDO IC; PackageTopMarking: NSUZXYTTE#*LM340AS*-5.0 P+; Published: 4-Dec-2008; DatasheetVersion: Jul-2006; PackageVersion: revF, Apr-2005; PackageReference: TS3B; Publisher: Altium Limited; PackageDescription: TO-263, Molded, .400 x .390 x .180in, 3 Lead, .1in Pitch, Surface Mount; RoHS: O; PinCount: 3; DigiKeyPartNumber: LM340AS-5.0-ND; Code_JEDEC: MO-169-AA; ComponentLink1Description: LM340 Datasheet; ComponentLink1URL: http://www.national.com/ds/LM/LM340.pdf; ComponentLink2Description: LM340 Web Page; ComponentLink2URL: http://www.national.com/pf/LM/LM340.html; ComponentLink3Description: TS3B Package Page; ComponentLink3URL: http://www.national.com/packaging/folders/ts3b.html
footprint TS3B_N (D2-PAK, 4-Leads, Body 8.6x10.2mm, Pitch 2.54mm, Lead Span 14.2mm, IPC Medium Density)
footprint TS3B_L (D2-PAK, 4-Leads, Body 8.6x10.2mm, Pitch 2.54mm, Lead Span 14.2mm, IPC High Density)
footprint TS3B_M (D2-PAK, 4-Leads, Body 8.6x10.2mm, Pitch 2.54mm, Lead Span 14.2mm, IPC Low Density)
pins: 1 IN (power), 2 GND (power), 3 OUT (power), 4 TAB (power)

## LM340AT-5.0
designator U?
Series 3-Terminal Positive Regulators; PartNumber: LM340AT-5.0; Manufacturer: National Semiconductor; CompType: LDO IC; PackageTopMarking: NSUZXYTTE#*LM340AT*5.0 P+; Published: 4-Dec-2008; DatasheetVersion: Jul-2006; PackageVersion: revL, Jan-1992; PackageReference: T03B; Publisher: Altium Limited; PackageDescription: TO-220, Molded, 3 Lead, Straight; RoHS: O; PinCount: 3; DigiKeyPartNumber: LM340AT-5.0-ND; ComponentLink1Description: LM340 Datasheet; ComponentLink1URL: http://www.national.com/ds/LM/LM340.pdf; ComponentLink2Description: LM340 Web Page; ComponentLink2URL: http://www.national.com/pf/LM/LM340.html; ComponentLink3Description: T03B Package Page; ComponentLink3URL: http://www.national.com/packaging/folders/t03b.html
footprint T03B (TO, Thru-Hole, Vertical, Heatsink Mounted; 3 In-Line Leads; Pitch 2.54 mm)
pins: 1 IN (power), 2 GND (power), 3 OUT (power)

## LM340K-5.0
designator U?
Series 3-Terminal Positive Regulators; PartNumber: LM340K-5.0; Manufacturer: National Semiconductor; CompType: LDO IC; PackageTopMarking: NS*ZXYTTE#*LM340K*-5.0 7805P+; Published: 4-Dec-2008; DatasheetVersion: Jul-2006; PackageVersion: revG, Oct-1991; PackageReference: K02A; Publisher: Altium Limited; PackageDescription: Metal Can (KA) TO-3, 2 Lead; RoHS: O; PinCount: 2; DigiKeyPartNumber: LM340K-5.0-ND; ComponentLink1Description: LM340 Datasheet; ComponentLink1URL: http://www.national.com/ds/LM/LM340.pdf; ComponentLink2Description: LM340 Web Page; ComponentLink2URL: http://www.national.com/pf/LM/LM340.html; ComponentLink3Description: K02A Package Page; ComponentLink3URL: http://www.national.com/packaging/folders/k02a.html
footprint K02A (Oval Flange Mount with (2) Offset Leads; Pin Spacing 10.93 mm; Lead Dia. 1.09 mm (max))
pins: 1 IN (power), 2 OUT (power), 3 GND (power)

## LM340K-12
designator U?
Series 3-Terminal Positive Regulators; PartNumber: LM340K-12; Manufacturer: National Semiconductor; CompType: LDO IC; PackageTopMarking: NS*ZXYTTE#*LM340K*12 7812P+; Published: 4-Dec-2008; DatasheetVersion: Jul-2006; PackageVersion: revG, Oct-1991; PackageReference: K02A; Publisher: Altium Limited; PackageDescription: Metal Can (KA) TO-3, 2 Lead; RoHS: O; PinCount: 2; DigiKeyPartNumber: LM340K-12-ND; ComponentLink1Description: LM340 Datasheet; ComponentLink1URL: http://www.national.com/ds/LM/LM340.pdf; ComponentLink2Description: LM340 Web Page; ComponentLink2URL: http://www.national.com/pf/LM/LM340.html; ComponentLink3Description: K02A Package Page; ComponentLink3URL: http://www.national.com/packaging/folders/k02a.html
footprint K02A (Oval Flange Mount with (2) Offset Leads; Pin Spacing 10.93 mm; Lead Dia. 1.09 mm (max))
pins: 1 IN (power), 2 OUT (power), 3 GND (power)

## LM340LAZ-5.0
designator U?
Series 3-Terminal Positive Regulators; PartNumber: LM340LAZ-5.0; Manufacturer: National Semiconductor; CompType: LDO IC; PackageTopMarking: NSXYTT*340LA*Z-5.0; Published: 4-Dec-2008; DatasheetVersion: Jul-2005; PackageVersion: revG, Sep-2000; PackageReference: Z03A; Publisher: Altium Limited; PackageDescription: TO-92, Molded, 3 Lead; RoHS: O; PinCount: 3; DigiKeyPartNumber: LM340LAZ-5.0-ND; Code_JEDEC: TO-226-AA; ComponentLink1Description: LM340L Datasheet; ComponentLink1URL: http://www.national.com/ds/LM/LM340L.pdf; ComponentLink2Description: LM340L Web Page; ComponentLink2URL: http://www.national.com/pf/LM/LM340L.html; ComponentLink3Description: Z03A Package Page; ComponentLink3URL: http://www.national.com/packaging/folders/z03a.html
footprint Z03A (TO, Flat Index; 3 In-Line, Axial Leads; Body Dia. 5mm; Leads 0.55 x 0.50 mm (max))
pins: 1 OUT (power), 2 GND (power), 3 IN (power)

## LM340MP-5.0
designator U?
Series 3-Terminal Positive Regulators; PartNumber: LM340MP-5.0; Manufacturer: National Semiconductor; CompType: LDO IC; PackageTopMarking: XYTT*N00A; Published: 4-Dec-2008; DatasheetVersion: Jul-2006; PackageVersion: revB, Apr-2003; PackageReference: MP04A; Publisher: Altium Limited; PackageDescription: Molded SOT-223, 6.50 x 3.56 x 1.6mm Body, 4 Lead, 2.3mm Pitch; RoHS: O; PinCount: 4; DigiKeyPartNumber: LM340MP-5.0CT-ND; Code_JEDEC: TO-261-AA; Code_IPC: SOT223-4; ComponentLink1Description: LM340 Datasheet; ComponentLink1URL: http://www.national.com/ds/LM/LM340.pdf; ComponentLink2Description: LM340 Web Page; ComponentLink2URL: http://www.national.com/pf/LM/LM340.html; ComponentLink3Description: MP04A Package Page; ComponentLink3URL: http://www.national.com/packaging/folders/mp04a.html
footprint MP04A_N (SOT223, 4-Leads, Body 6.5x3.5mm, Pitch 2.3mm, Lead Span 7mm, IPC Medium Density)
footprint MP04A_L (SOT223, 4-Leads, Body 6.5x3.5mm, Pitch 2.3mm, Lead Span 7mm, IPC High Density)
footprint MP04A_M (SOT223, 4-Leads, Body 6.5x3.5mm, Pitch 2.3mm, Lead Span 7mm, IPC Low Density)
pins: 1 IN (power), 2 GND (power), 3 OUT (power), 4 TAB (power)

## LM340S-5.0
designator U?
Series 3-Terminal Positive Regulators; PartNumber: LM340S-5.0; Manufacturer: National Semiconductor; CompType: LDO IC; PackageTopMarking: NSUZXYTTE#*LM340S*-5.0 P+; Published: 4-Dec-2008; DatasheetVersion: Jul-2006; PackageVersion: revF, Apr-2005; PackageReference: TS3B; Publisher: Altium Limited; PackageDescription: TO-263, Molded, .400 x .390 x .180in, 3 Lead, .1in Pitch, Surface Mount; RoHS: O; PinCount: 3; DigiKeyPartNumber: LM340S-5.0-ND; Code_JEDEC: MO-169-AA; ComponentLink1Description: LM340 Datasheet; ComponentLink1URL: http://www.national.com/ds/LM/LM340.pdf; ComponentLink2Description: LM340 Web Page; ComponentLink2URL: http://www.national.com/pf/LM/LM340.html; ComponentLink3Description: TS3B Package Page; ComponentLink3URL: http://www.national.com/packaging/folders/ts3b.html
footprint TS3B_N (D2-PAK, 4-Leads, Body 8.6x10.2mm, Pitch 2.54mm, Lead Span 14.2mm, IPC Medium Density)
footprint TS3B_L (D2-PAK, 4-Leads, Body 8.6x10.2mm, Pitch 2.54mm, Lead Span 14.2mm, IPC High Density)
footprint TS3B_M (D2-PAK, 4-Leads, Body 8.6x10.2mm, Pitch 2.54mm, Lead Span 14.2mm, IPC Low Density)
pins: 1 IN (power), 2 GND (power), 3 OUT (power), 4 TAB (power)

## LM340S-12
designator U?
Series 3-Terminal Positive Regulators; PartNumber: LM340S-12; Manufacturer: National Semiconductor; CompType: LDO IC; PackageTopMarking: NSUZXYTTE#*LM340S*-12 P+; Published: 4-Dec-2008; DatasheetVersion: Jul-2006; PackageVersion: revF, Apr-2005; PackageReference: TS3B; Publisher: Altium Limited; PackageDescription: TO-263, Molded, .400 x .390 x .180in, 3 Lead, .1in Pitch, Surface Mount; RoHS: O; PinCount: 3; DigiKeyPartNumber: LM340S-12-ND; Code_JEDEC: MO-169-AA; ComponentLink1Description: LM340 Datasheet; ComponentLink1URL: http://www.national.com/ds/LM/LM340.pdf; ComponentLink2Description: LM340 Web Page; ComponentLink2URL: http://www.national.com/pf/LM/LM340.html; ComponentLink3Description: TS3B Package Page; ComponentLink3URL: http://www.national.com/packaging/folders/ts3b.html
footprint TS3B_N (D2-PAK, 4-Leads, Body 8.6x10.2mm, Pitch 2.54mm, Lead Span 14.2mm, IPC Medium Density)
footprint TS3B_L (D2-PAK, 4-Leads, Body 8.6x10.2mm, Pitch 2.54mm, Lead Span 14.2mm, IPC High Density)
footprint TS3B_M (D2-PAK, 4-Leads, Body 8.6x10.2mm, Pitch 2.54mm, Lead Span 14.2mm, IPC Low Density)
pins: 1 IN (power), 2 GND (power), 3 OUT (power), 4 TAB (power)

## LM340T-5.0
designator U?
Series 3-Terminal Positive Regulators; PartNumber: LM340T-5.0; Manufacturer: National Semiconductor; CompType: LDO IC; PackageTopMarking: NSUZXYTTE#*LM340T5*7805 P+; Published: 4-Dec-2008; DatasheetVersion: Jul-2006; PackageVersion: revL, Jan-1992; PackageReference: T03B; Publisher: Altium Limited; PackageDescription: TO-220, Molded, 3 Lead, Straight; RoHS: O; PinCount: 3; DigiKeyPartNumber: LM340T-5.0-ND; ComponentLink1Description: LM340 Datasheet; ComponentLink1URL: http://www.national.com/ds/LM/LM340.pdf; ComponentLink2Description: LM340 Web Page; ComponentLink2URL: http://www.national.com/pf/LM/LM340.html; ComponentLink3Description: T03B Package Page; ComponentLink3URL: http://www.national.com/packaging/folders/t03b.html
footprint T03B (TO, Thru-Hole, Vertical, Heatsink Mounted; 3 In-Line Leads; Pitch 2.54 mm)
pins: 1 IN (power), 2 GND (power), 3 OUT (power)

## LM340T-12
designator U?
Series 3-Terminal Positive Regulators; PartNumber: LM340T-12; Manufacturer: National Semiconductor; CompType: LDO IC; PackageTopMarking: NSUZXYTTE#*LM340T12*7812 P+; Published: 4-Dec-2008; DatasheetVersion: Jul-2006; PackageVersion: revL, Jan-1992; PackageReference: T03B; Publisher: Altium Limited; PackageDescription: TO-220, Molded, 3 Lead, Straight; RoHS: O; PinCount: 3; DigiKeyPartNumber: LM340T-12-ND; ComponentLink1Description: LM340 Datasheet; ComponentLink1URL: http://www.national.com/ds/LM/LM340.pdf; ComponentLink2Description: LM340 Web Page; ComponentLink2URL: http://www.national.com/pf/LM/LM340.html; ComponentLink3Description: T03B Package Page; ComponentLink3URL: http://www.national.com/packaging/folders/t03b.html
footprint T03B (TO, Thru-Hole, Vertical, Heatsink Mounted; 3 In-Line Leads; Pitch 2.54 mm)
pins: 1 IN (power), 2 GND (power), 3 OUT (power)